# EAGLE library part QT510 (library quantum-sensor)
QWHEEL (tm) TOUCH SLIDER IC Source: http://www.qprox.com/downloads/manuals/e510_201.pdf
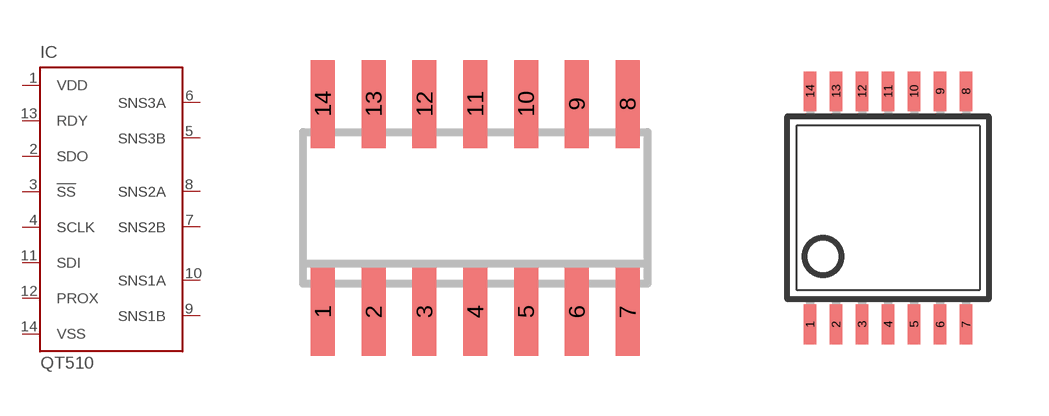
[diagram p0: symbol with the pads of SO-14; footprints SO-14, TSSOP14]

Designator prefix IC

## QT510-ISG  [SO-14]
1  VDD  pwr
2  SDO  out
3  !SS  in
4  SCLK  in
5  SNS3B  pas
6  SNS3A  pas
7  SNS2B  pas
8  SNS2A  pas
9  SNS1B  pas
10  SNS1A  pas
11  SDI  in
12  PROX  out
13  RDY  out
14  VSS  pwr

## QT510-ISSG  [TSSOP14]
Pads as for SO-14

## Footprint SO-14 (pad centres in mm)
Small Outline Narrow Plastic Gull Wing 150-mil body, package type SL
smd 0.6 x 2.2: 1 -3.81,-2.6; 2 -2.54,-2.6; 3 -1.27,-2.6; 4 0,-2.6; 5 1.27,-2.6; 6 2.54,-2.6; 7 3.81,-2.6; 8 3.81,2.6; 9 2.54,2.6; 10 1.27,2.6; 11 0,2.6; 12 -1.27,2.6; 13 -2.54,2.6; 14 -3.81,2.6

## Footprint TSSOP14 (pad centres in mm)
Thin Shrink Small Outline Plastic 14 MAX3223-MAX3243.pdf
smd 0.305 x 0.991: 1 -1.95,-2.918; 2 -1.3,-2.918; 3 -0.65,-2.918; 4 0,-2.918; 5 0.65,-2.918; 6 1.3,-2.918; 7 1.95,-2.918; 8 1.95,2.918; 9 1.3,2.918; 10 0.65,2.918; 11 0,2.918; 12 -0.65,2.918; 13 -1.3,2.918; 14 -1.95,2.918